# Altium footprint library F1206B3R00FWTR.PcbLib: 1 footprints
Each footprint in its own frame and in the unit in brackets; x right, y up, seen from the top. Pads: shape width x height; smd on the part's side, far side on the other; paste and mask are expansions set on the pad; w line width, h text height; cw(c..) or ccw(c..) is an arc to the next point about the centre after c.
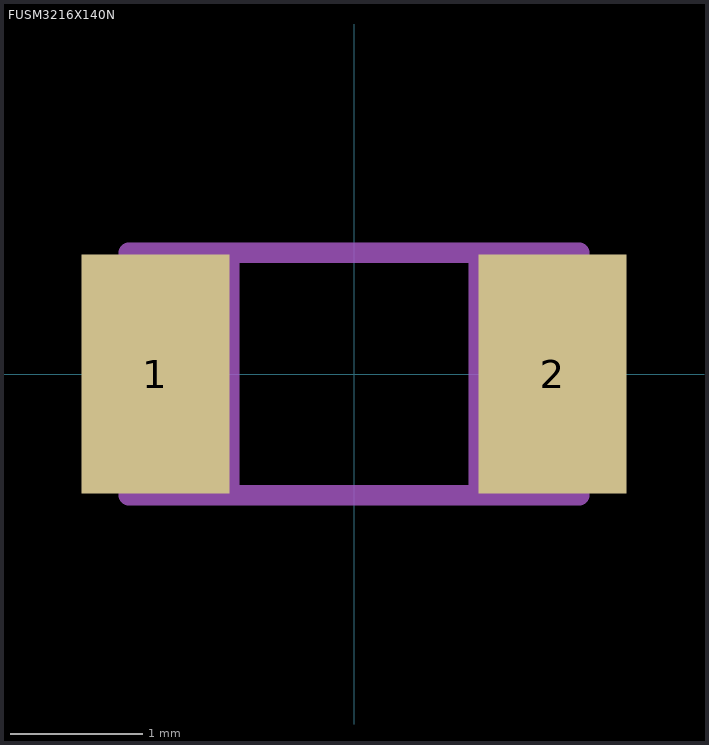
[diagram p0: the footprint, top view; thin cyan lines are the x and y axes]

## FUSM3216X140N [mil]
pads (2):
  rect 44x71 smd: 1(-59,0) 2(59,0)
Mechanical 1:
  lines w6: -37,-36 67,-36 67,-35 ; -37,-36 -67,-36 -67,36 -37,36 ; -37,-36 -37,36 ; -37,36 37,36 ; 37,36 67,36 67,-35 ; 37,36 37,-36 67,-35